# EAGLE library part STD043F04X2 (library con-pinheader-standard)
female standard header 2mm, 4.3mm height
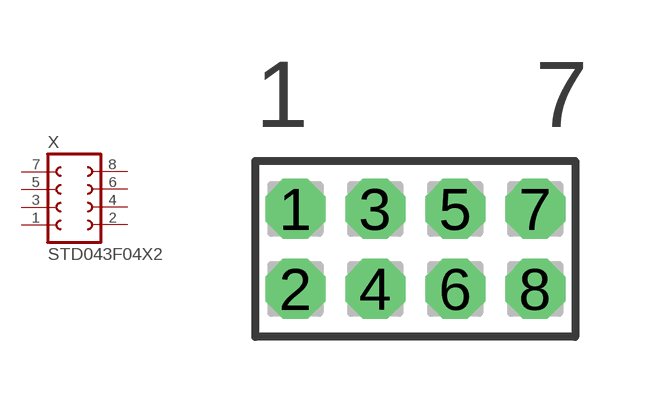
[diagram p17: symbol with the pads of STD043F04X2-2.00; footprint STD043F04X2-2.00]

Designator prefix X

## STD043F04X2-2.00MM  [STD043F04X2-2.00]
1  1  pas
2  2  pas
3  3  pas
4  4  pas
5  5  pas
6  6  pas
7  7  pas
8  8  pas

## Footprint STD043F04X2-2.00 (pad centres in mm)
female standard header 2mm, 4.3mm height
drill 0.8 pad 1.5 octagon: 1 -3,1; 2 -3,-1; 3 -1,1; 4 -1,-1; 5 1,1; 6 1,-1; 7 3,1; 8 3,-1